# Altium schematic symbol library Transformers.SchLib: 3 symbols
Pins are listed as number, name and electrical type; pins without a type are passive.

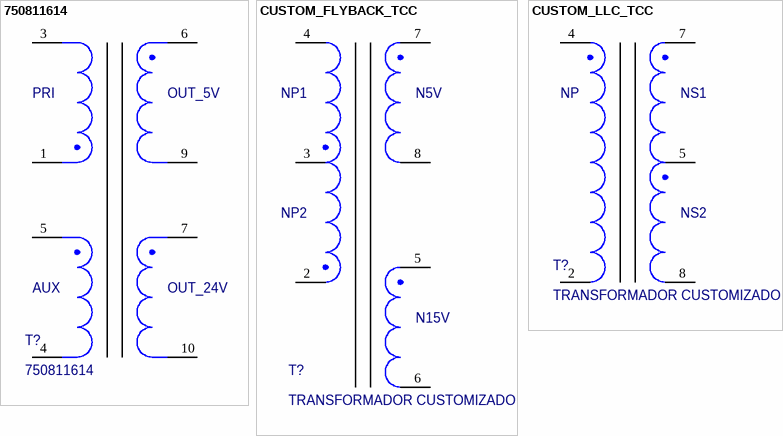
[diagram p0: symbols 750811614 to CUSTOM_LLC_TCC]

## 750811614
designator T?
XFMR LED DR AC/DC CONV 800UH TH; Manufacturer: Wurth Elektronik; Current Rating: 1.4A; DC Resistance (DCR): 9.2mΩ; Frequency: 220kHz; Value: 800µH; Isolation Voltage: 4500Vrms; Max Supply Voltage: 265V; Min Input Voltage: 85V; Output Current: 620mA; Output Voltage: 5V; Pin Length: 3.18mm; Supplier: DigiKey; Supplier Part Number: 1297-1091-ND; Manufacturer Part Number: 750811614; RoHS: Compliant; Category: Uncategorized; Pricing: 1008=4.13868 (USD); Height: 12mm; Height - Seated (Max): 12mm; Length: 21.5mm; Max Operating Temperature: 125°C; Max Switching Frequency: 220kHz; Min Operating Temperature: -40°C; Mounting Technology: Through Hole; Saturation Current: 1.4A; Termination: Through Hole; Width: 29mm; ComponentLink1URL: https://datasheet.octopart.com:443/750811614-Wurth-Elektronik-datasheet-181539450.pdf?src-supplier=Wurth+Elektronik; ComponentLink1Description: https://datasheet.octopart.com:443/750811614-Wurth-Elektronik-datasheet-181539450.pdf?src-supplier=Wurth+Elektronik
footprint WE-OLEFD_EFD20 THT (Offline Flyback Transformer, THT, body 29.00 x 21.50 mm)
pins: 1, 3, 4, 5, 6, 7, 9, 10
text: PRI; OUT_5V; AUX; OUT_24V

## CUSTOM_FLYBACK_TCC
designator T?, comment TRANSFORMADOR CUSTOMIZADO
TRANSFORMADOR FLYBACK CUSTOMIZADO QUE USEI NO TCC; Manufacturer Part Number: Custom; ComponentLink1Description: Datasheet; ComponentLink1URL: https://www.tdk-electronics.tdk.com/inf/80/db/fer/e_16_8_5.pdf; Manufacturer: Custom
footprint TDK_E_16_8_5
pins: 2, 3, 4, 5, 6, 7, 8
text: NP1; N5V; NP2; N15V

## CUSTOM_LLC_TCC
designator T?, comment TRANSFORMADOR CUSTOMIZADO
TRANSFORMADOR LLC CUSTOMIZADO QUE USEI NO TCC; Manufacturer Part Number: Custom; ComponentLink1Description: Datasheet; ComponentLink1URL: https://www.tdk-electronics.tdk.com/inf/80/db/fer/e_16_8_5.pdf; Manufacturer: Custom
pins: 2, 4, 5, 7, 8
text: NP; NS1; NS2